# Altium footprint library FUFO.PcbLib: 21 footprints (part 2 of 2)
Each footprint in its own frame and in the unit in brackets; x right, y up, seen from the top. Pads: shape width x height; smd on the part's side, far side on the other; paste and mask are expansions set on the pad; w line width, h text height; cw(c..) or ccw(c..) is an arc to the next point about the centre after c.
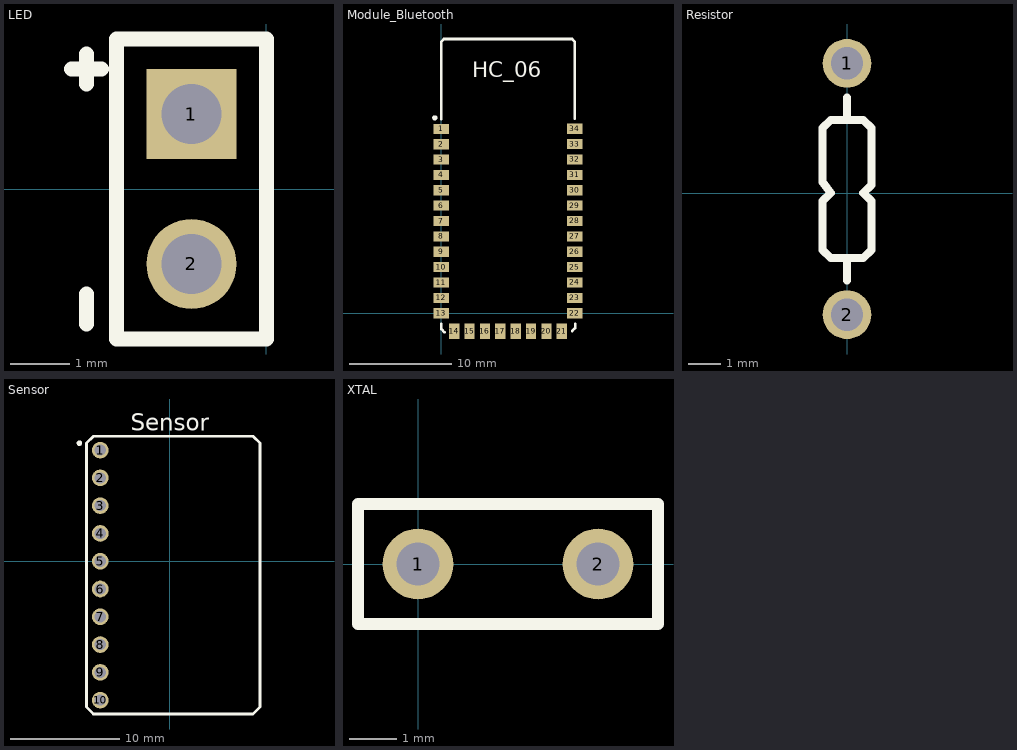
[diagram p1: the footprints below, top view; thin cyan lines are the x and y axes]

## LED [mil]
pads (2):
  rect 60x60 hole 40: 1(-50,50)
  round 60 hole 40: 2(-50,-50)
Top Overlay:
  lines w10: -130,80 -110,80 ; -120,-90 -120,-70 ; -120,70 -120,90 ; -100,-100 0,-100 0,100 -100,100 -100,-100

## Module_Bluetooth [mil]
pads (34):
  rect 60x39 smd: 1(0,708) 2(0,649) 3(0,590) 4(0,531) 5(0,472) 6(0,413) 7(0,354) 8(0,295) 9(0,236) 10(0,177) 11(0,118) 12(0,59) 13(0,0) 22(511.68,0) 23(511.68,59.04) 24(511.68,118.08) 25(511.68,177.12) 26(511.68,236.16) 27(511.68,295.2) 28(511.68,354.24) 29(511.68,413.28) 30(511.68,472.32) 31(511.68,531.36) 32(511.68,590.4) 33(511.68,649.44) 34(511.68,708.48)
  rect 39x60 smd: 14(49.2,-68.88) 15(108.24,-68.88) 16(167.28,-68.88) 17(226.32,-68.88) 18(285.36,-68.88) 19(344.4,-68.88) 20(403.44,-68.88) 21(462.48,-68.88)
Top Overlay:
  circle w10: c-25,750 r5
  lines w10: 0,-40 0,-61 12,-73 ; 0,745 0,1040 ; 0,1043.04 9.84,1052.88 88.56,1052.88 423.12,1052.88 501.84,1052.88 511.68,1043.04 ; 501.84,-68.88 514,-56.72 514,-40 ; 512,746 512,1042
  text "HC_06" at 118.08,905.28 h60

## Resistor [mil]
pads (2):
  round 60 hole 40: 1(0,160) 2(0,-150)
Top Overlay:
  lines w10: 0,-108 0,-80 ; 0,90 0,118 ; -30,-70 -30,-30 -30,-10 -20,0 -30,13.33 -30,80 -20,90 20,90 30,80 30,20 30,10 20,0 30,-10 30,-70 20,-80 -20,-80 -30,-70

## Sensor [mil]
height 400
pads (10):
  round 60 hole 40: 1(-250,400) 2(-250,300) 3(-250,200) 4(-250,100) 5(-250,0) 6(-250,-100) 7(-250,-200) 8(-250,-300) 9(-250,-400) 10(-250,-500)
Top Overlay:
  circle w10: c-325,425 r5
  lines w10: -300,-525 -275,-550 300,-550 325,-525 325,425 300,450 -275,450 -300,425 -300,-525
  text "Sensor" at -140,470 h60

## XTAL [mm] "Connector; Header; 2 Position"
pads (2):
  round 1.5 hole 0.9: 1(0,0) 2(3.81,0)
Top Overlay:
  lines w0.254: -1.27,-1.27 -1.27,1.27 5.08,1.27 5.08,-1.27 -1.27,-1.27